# EAGLE library part HCPL0630 (library Robot)
HCPL-0630 High CMR, High Speed TTL Compatible Optocoupler
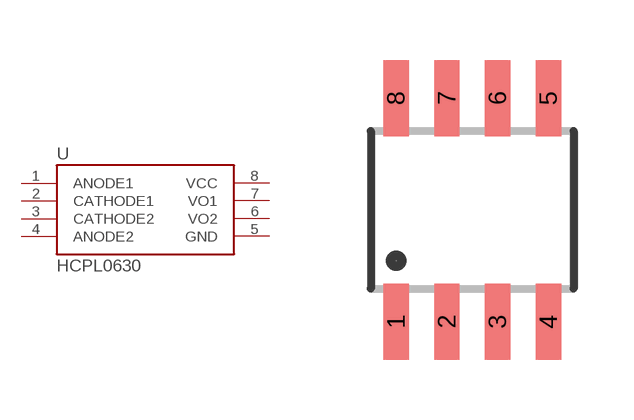
[diagram p14: symbol with the pads of SO-8; footprint SO-8]

Designator prefix -

## HCPL0630  [SO-8]
1  ANODE1
2  CATHODE1
3  CATHODE2
4  ANODE2
5  GND  pwr
6  VO2  out
7  VO1  out
8  VCC  pwr

## Footprint SO-8 (pad centres in mm)
SO-8 Land pattern taken from the HCPL-0630 datasheet.
smd 0.635 x 1.905: 1 -1.905,-2.794; 2 -0.635,-2.794; 3 0.635,-2.794; 4 1.905,-2.794; 5 1.905,2.794; 6 0.635,2.794; 7 -0.635,2.794; 8 -1.905,2.794